# EAGLE library part MICRONOVA_DYSR00P401101 (library MicroNovaDisplayRevX3)
Alphanumeric LED Display Common anode. Multiple LEDs on some segments. Multiple LED colors available. Works great with A6282 driver IC. Decimal points are unfornately not connected. SKU: COM-09933.
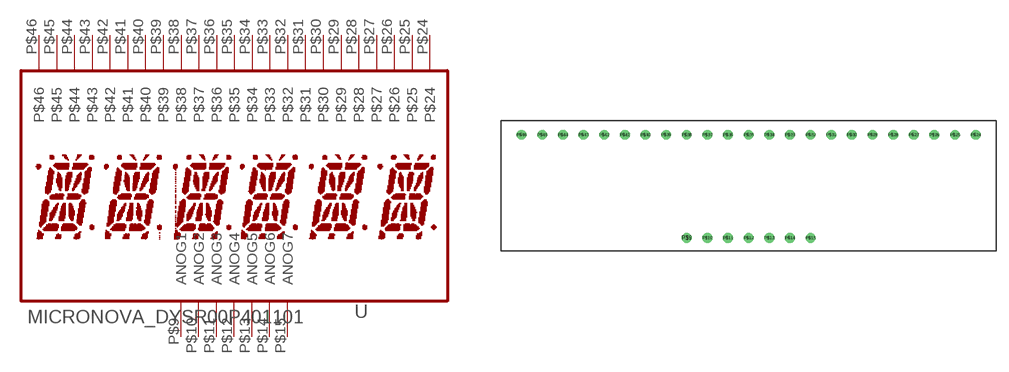
[diagram p1: symbol with the pads of ALPHANUMERIC; footprint ALPHANUMERIC]

Designator prefix U

## MICRONOVA_DYSR00P401101  [ALPHANUMERIC]
P$9  ANOG1
P$10  ANOG2
P$11  ANOG3
P$12  ANOG4
P$13  ANOG5
P$14  ANOG6
P$15  ANOG7
P$24  P$24
P$25  P$25
P$26  P$26
P$27  P$27
P$28  P$28
P$29  P$29
P$30  P$30
P$31  P$31
P$32  P$32
P$33  P$33
P$34  P$34
P$35  P$35
P$36  P$36
P$37  P$37
P$38  P$38
P$39  P$39
P$40  P$40
P$41  P$41
P$42  P$42
P$43  P$43
P$44  P$44
P$45  P$45
P$46  P$46

## Footprint ALPHANUMERIC (pad centres in mm)
drill 0.699: P$9 -7.513,-6.226; P$10 -4.973,-6.226; P$11 -2.433,-6.226; P$12 0.107,-6.226; P$13 2.647,-6.226; P$14 5.187,-6.226; P$15 7.727,-6.226; P$24 28.047,6.474; P$25 25.502,6.464; P$26 22.962,6.464; P$27 20.427,6.474; P$28 17.887,6.474; P$29 15.347,6.474; P$30 12.807,6.474; P$31 10.267,6.474; P$32 7.727,6.474; P$33 5.187,6.474; P$34 2.647,6.474; P$35 0.107,6.474; P$36 -2.433,6.474; P$37 -4.973,6.474; P$38 -7.513,6.474; P$39 -10.053,6.474; P$40 -12.593,6.474; P$41 -15.133,6.474; P$42 -17.673,6.474; P$43 -20.213,6.474; P$44 -22.753,6.474; P$45 -25.293,6.474; P$46 -27.833,6.474